# Altium footprint library 遥控器主板.PcbLib: 2 footprints
Each footprint in its own frame and in the unit in brackets; x right, y up, seen from the top. Pads: shape width x height; smd on the part's side, far side on the other; paste and mask are expansions set on the pad; w line width, h text height; cw(c..) or ccw(c..) is an arc to the next point about the centre after c.
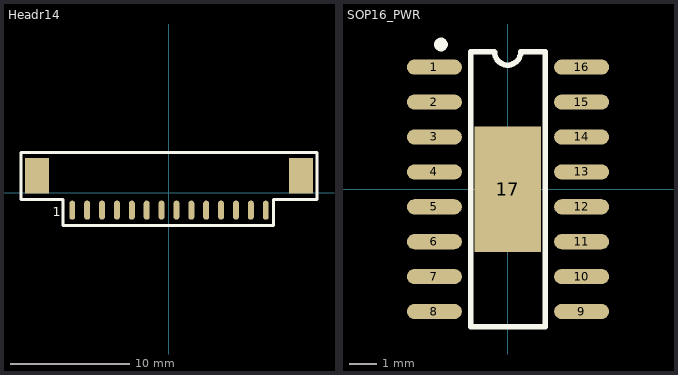
[diagram p0: the footprints below, top view; thin cyan lines are the x and y axes]

## Headr14 [mm] "14pin卧贴接插件"
pads (16):
  oval 0.5x1.6 smd: 1(-8.125,-1.45) 2(-6.875,-1.45) 3(-5.625,-1.45) 4(-4.375,-1.45) 5(-3.125,-1.45) 6(-1.875,-1.45) 7(-0.625,-1.45) 8(0.625,-1.45) 9(1.875,-1.45) 10(3.125,-1.45) 11(4.375,-1.45) 12(5.625,-1.45) 13(6.875,-1.45) 14(8.125,-1.45)
  rect 2x3 smd: ""(-11.1,1.45) ""(11.1,1.45)
Top Overlay:
  lines w0.254: -12.446,-0.561 -12.446,3.376 12.446,3.376 12.446,-0.561 8.763,-0.561 8.763,-2.72 -8.89,-2.72 -8.89,-0.561 -12.446,-0.561
  text "1" at -9.779,-1.958 h0.76

## SOP16_PWR [mm] "SOP, 16-Leads, Body 9.90x3.90mm, Pitch 1.27mm, IPC Medium Density"
height 1.75
pads (17):
  oval 2x0.55 smd: 1(-2.667,4.445) 2(-2.667,3.175) 3(-2.667,1.905) 4(-2.667,0.635) 5(-2.667,-0.635) 6(-2.667,-1.905) 7(-2.667,-3.175) 8(-2.667,-4.445) 9(2.692,-4.445) 10(2.692,-3.175) 11(2.692,-1.905) 12(2.692,-0.635) 13(2.692,0.635) 14(2.692,1.905) 15(2.692,3.175) 16(2.692,4.445)
  rect 2.41x4.57 smd: 17(0,0)
Top Overlay:
  circle w0.25: c-2.425,5.27 r0.125
  lines w0.2: -0.483,5 -1.346,5 -1.346,-5 1.372,-5 1.372,5 0.475,5 ; -0.475,4.997 ccw(c0,4.996) 0.475,4.997
3D body "SO-16.step": height 1.45, standoff 0, extent -2.927,-4.978 2.978,5.004